# Altium schematic symbol library IC_Linear.SchLib: 5 symbols
Pins are listed as number, name and electrical type; pins without a type are passive.

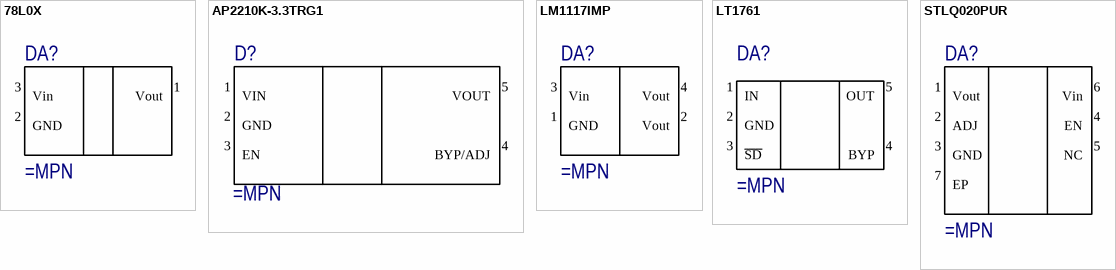
[diagram p0: symbols 78L0X to STLQ020PUR]

## 78L0X
designator DA?
pins: 1 Vout (power), 2 GND (power), 3 Vin (power)

## AP2210K-3.3TRG1
designator D?
pins: 1 VIN, 2 GND, 3 EN, 4 BYP/ADJ, 5 VOUT

## LM1117IMP
designator DA?
LM1117 800-mA Low-Dropout Linear Regulator
pins: 1 GND (power), 2 Vout (power), 3 Vin (power), 4 Vout (power)

## LT1761
designator DA?
pins: 1 IN, 2 GND, 3 ~{SD}, 4 BYP, 5 OUT

## STLQ020PUR
designator DA?
200 mA ultra-low quiescent current LDO
pins: 1 Vout (power), 2 ADJ (power), 3 GND (power), 4 EN (power), 5 NC, 6 Vin, 7 EP